# EAGLE library part TC2030-JLINK (library connector)
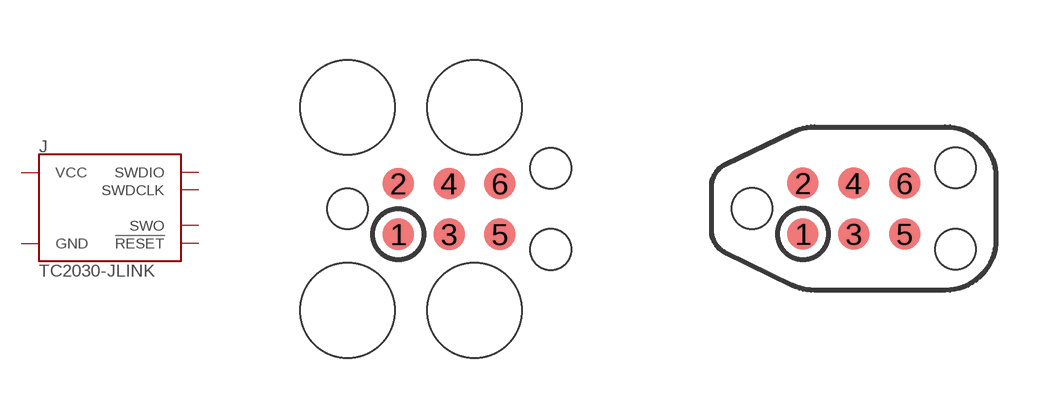
[diagram p5: symbol with the pads of TC2030-IDC; footprints TC2030-IDC, TC2030-IDC-NL]

Designator prefix J

## TC2030-JLINK-L  [TC2030-IDC]
1  VCC
2  SWDIO
3  !RESET
4  SWDCLK
5  GND
6  SWO

## TC2030-JLINK-NL  [TC2030-IDC-NL]
Pads as for TC2030-IDC

## TC2030-JLINK-NL_NOSILK  [TC2030-IDC-NL_NOSILK]
Pads as for TC2030-IDC

## Footprint TC2030-IDC (pad centres in mm)
Tag Connect TC2030-IDC
smd 0.787 x 0.787: 1 -1.27,-0.635; 2 -1.27,0.635; 3 0,-0.635; 4 0,0.635; 5 1.27,-0.635; 6 1.27,0.635
hole 2.375 at -2.54,2.54
hole 2.375 at 0.635,2.54
hole 2.375 at 0.635,-2.54
hole 2.375 at -2.54,-2.54
hole 1.016 at -2.54,0
hole 1.016 at 2.54,1.016
hole 1.016 at 2.54,-1.016

## Footprint TC2030-IDC-NL (pad centres in mm)
The TC2030-IDC-NL is our "No Legs" 6-pin Plug-of-Nails Cable
smd 0.787 x 0.787: 1 -1.27,-0.635; 2 -1.27,0.635; 3 0,-0.635; 4 0,0.635; 5 1.27,-0.635; 6 1.27,0.635
hole 1.016 at -2.54,0
hole 1.016 at 2.54,1.016
hole 1.016 at 2.54,-1.016

## Footprint TC2030-IDC-NL_NOSILK (pad centres in mm)
smd 0.787 x 0.787: 1 -1.27,-0.635; 2 -1.27,0.635; 3 0,-0.635; 4 0,0.635; 5 1.27,-0.635; 6 1.27,0.635
hole 1.016 at -2.54,0
hole 1.016 at 2.54,1.016
hole 1.016 at 2.54,-1.016